# EAGLE library part XBEE-SMT (library maxstream)
XBee(TM)/XBee-PRO(TM) ZB SMT RF Modules. Source: Digi (90002002_a.pdf) (http://www.digi.com/products/wireless-wired-embedded-solutions/zigbee-rf-modules/zigbee-mesh-module/xbee-smt.jsp#overview)
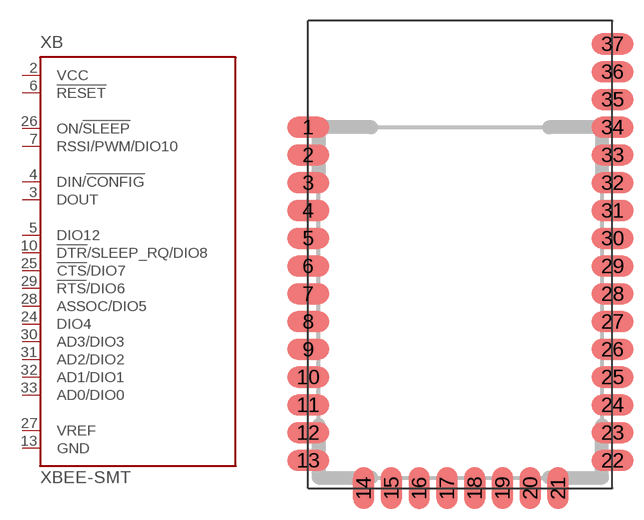
[diagram p1: symbol with the pads of XBEE-SMT; footprint XBEE-SMT]

Designator prefix XB

## XBEE-SMT  [XBEE-SMT]
2  VCC  pwr
3  DOUT  out
4  DIN/!CONFIG  in
5  DIO12
6  !RESET  in
7  RSSI/PWM/DIO10  out
10  !DTR!/SLEEP_RQ/DIO8
13  GND  pwr
24  DIO4
25  !CTS!/DIO7
26  ON/!SLEEP  out
27  VREF  in
28  ASSOC/DIO5
29  !RTS!/DIO6
30  AD3/DIO3
31  AD2/DIO2
32  AD1/DIO1
33  AD0/DIO0

## Footprint XBEE-SMT (pad centres in mm)
XBee SMT
smd 3.048 x 1.524: 1 0,26.086; 2 0,24.079; 3 0,22.073; 4 0,20.066; 5 0,18.059; 6 0,16.053; 7 0,14.046; 8 0,12.04; 9 0,10.033; 10 0,8.026; 11 0,6.02; 12 0,4.013; 13 0,2.007; 22 21.996,2.007; 23 21.996,4.013; 24 21.996,6.02; 25 21.996,8.026; 26 21.996,10.033; 27 21.996,12.04; 28 21.996,14.046; 29 21.996,16.053; 30 21.996,18.059; 31 21.996,20.066; 32 21.996,22.073; 33 21.996,24.079; 34 21.996,26.086; 35 21.996,28.092; 36 21.996,30.099; 37 21.996,32.106
smd 1.524 x 3.048: 14 4.013,0; 15 6.02,0; 16 8.026,0; 17 10.033,0; 18 12.04,0; 19 14.046,0; 20 16.053,0; 21 18.059,0